# Altium schematic symbol library 温湿度.SchLib: 22 symbols
Pins are listed as number, name and electrical type; pins without a type are passive.

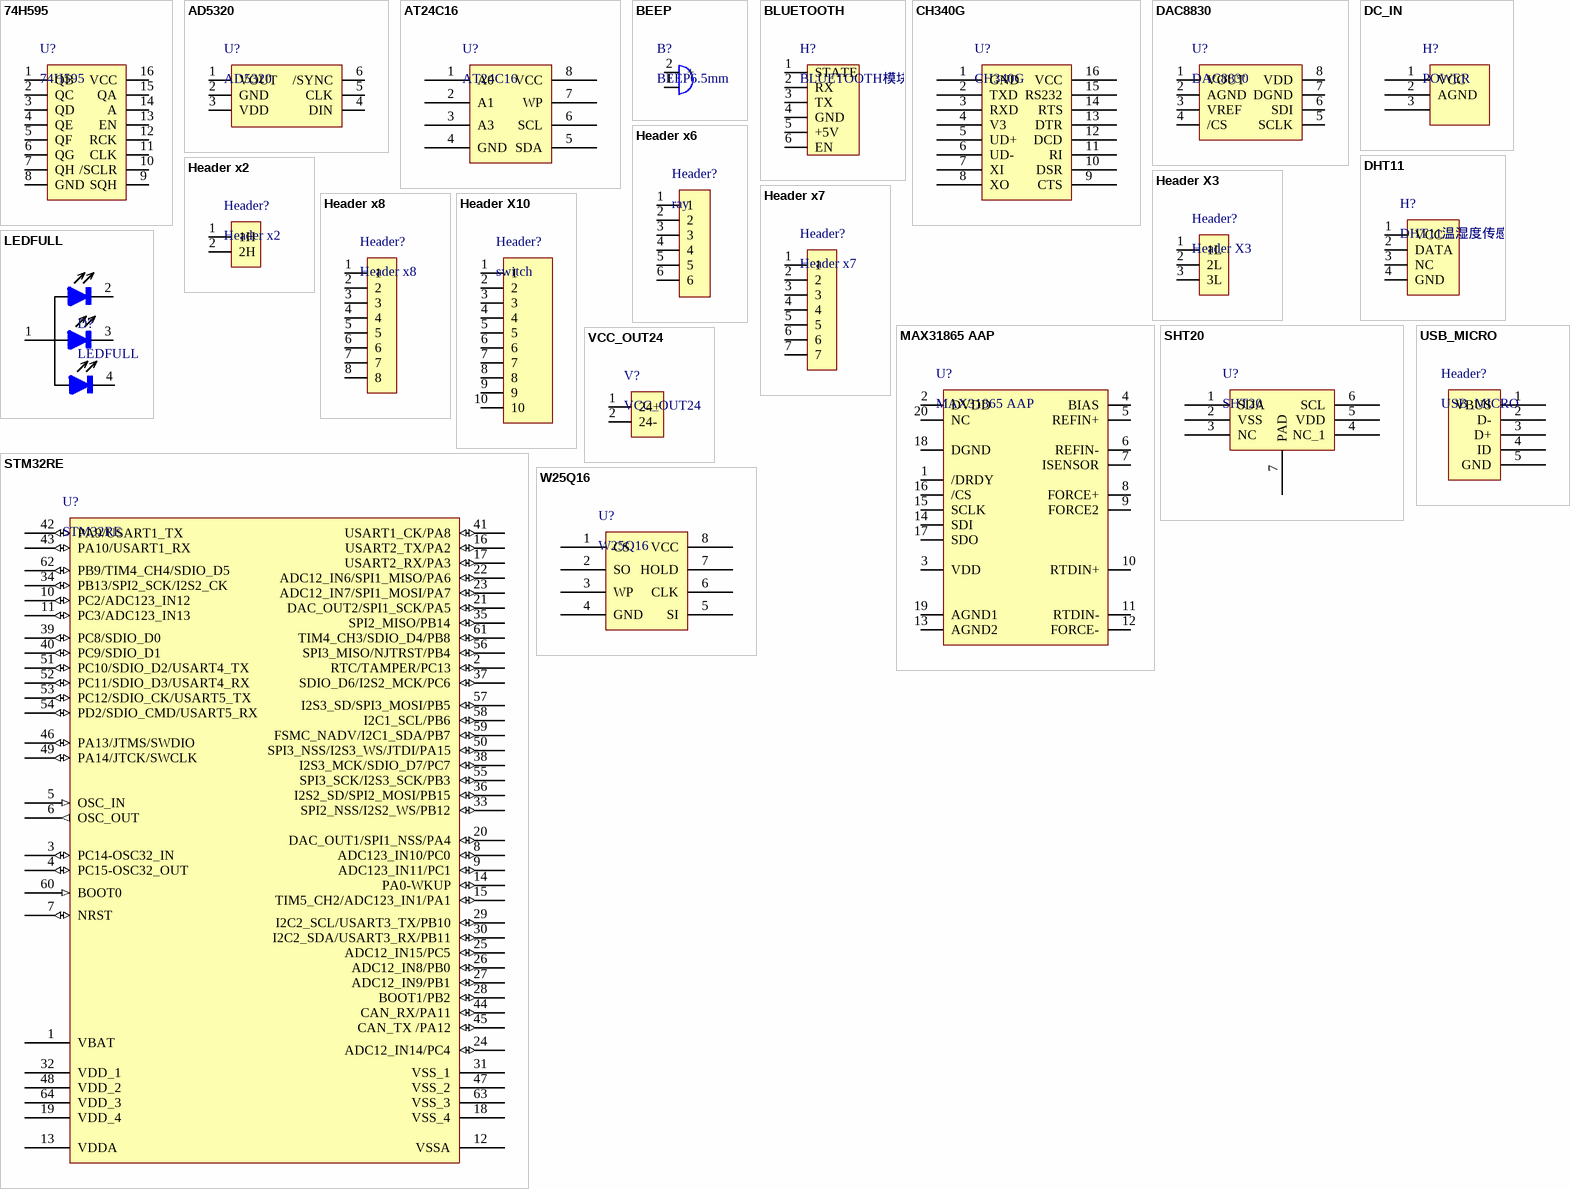
[diagram p0: symbols 74H595 to W25Q16]

## 74H595
designator U?
pins: 1 QB, 2 QC, 3 QD, 4 QE, 5 QF, 6 QG, 7 QH, 8 GND, 9 SQH, 10 /SCLR, 11 CLK, 12 RCK, 13 EN, 14 A, 15 QA, 16 VCC

## AD5320
designator U?
AD5320 数模转换
pins: 1 VOUT, 2 GND, 3 VDD, 4 DIN, 5 CLK, 6 /SYNC

## AT24C16
designator U?
EEPROM
pins: 1 A0, 2 A1, 3 A3, 4 GND, 5 SDA, 6 SCL, 7 WP, 8 VCC

## BEEP
designator B?, comment BEEP6.5mm
footprint BEEP 6.5x12x6 (6.5*12*6mm(脚距,直径,高度))
pins: 1, 2 +

## BLUETOOTH
designator H?, comment BLUETOOTH模块
footprint BLUETOOTH (蓝牙模块)
pins: 1 STATE, 2 RX, 3 TX, 4 GND, 5 +5V, 6 EN

## CH340G
designator U?
pins: 1 GND, 2 TXD, 3 RXD, 4 V3, 5 UD+, 6 UD-, 7 XI, 8 XO, 9 CTS, 10 DSR, 11 RI, 12 DCD, 13 DTR, 14 RTS, 15 RS232, 16 VCC

## DAC8830
designator U?
pins: 1 VOUT, 2 AGND, 3 VREF, 4 /CS, 5 SCLK, 6 SDI, 7 DGND, 8 VDD

## DC_IN
designator H?, comment POWER
footprint DC-005 (5.5*2.1mm，DC30V,2.5A)
pins: 1 VCC, 2 AGND, 3

## DHT11
designator H?, comment DHT11温湿度传感器
footprint DHT11 (温湿度传感器)
pins: 1 VCC, 2 DATA, 3 NC, 4 GND

## Header x2
designator Header?
pins: 1 1H, 2 2H

## Header X3
designator Header?
pins: 1 1L, 2 2L, 3 3L

## Header x6
designator Header?, comment ray
2个红外线口
pins: 1, 2, 3, 4, 5, 6

## Header x7
designator Header?
pins: 1, 2, 3, 4, 5, 6, 7

## Header x8
designator Header?
红外2个 4VCC 4GND 2信号线
pins: 1, 2, 3, 4, 5, 6, 7, 8

## Header X10
designator Header?, comment switch
pins: 1, 2, 3, 4, 5, 6, 7, 8, 9, 10

## LEDFULL
designator D?
全彩LED
pins: 1, 2, 3, 4

## MAX31865 AAP
designator U?
pins: 1 /DRDY, 2 DVDD, 3 VDD, 4 BIAS, 5 REFIN+, 6 REFIN-, 7 ISENSOR, 8 FORCE+, 9 FORCE2, 10 RTDIN+, 11 RTDIN-, 12 FORCE-, 13 AGND2, 14 SDI, 15 SCLK, 16 /CS, 17 SDO, 18 DGND, 19 AGND1, 20 NC

## SHT20
designator U?
pins: 1 SDA, 2 VSS, 3 NC, 4 NC_1, 5 VDD, 6 SCL, 7 PAD

## STM32RE
designator U?
footprint LQFP64 10X10_M (Footprint not found)
pins: 1 VBAT (power), 2 RTC/TAMPER/PC13 (io), 3 PC14-OSC32_IN (io), 4 PC15-OSC32_OUT (io), 5 OSC_IN (in), 6 OSC_OUT (out), 7 NRST (io), 8 ADC123_IN10/PC0 (io), 9 ADC123_IN11/PC1 (io), 10 PC2/ADC123_IN12 (io), 11 PC3/ADC123_IN13 (io), 12 VSSA (power), 13 VDDA (power), 14 PA0-WKUP (io), 15 TIM5_CH2/ADC123_IN1/PA1 (io), 16 USART2_TX/PA2 (io), 17 USART2_RX/PA3 (io), 18 VSS_4 (power), 19 VDD_4 (power), 20 DAC_OUT1/SPI1_NSS/PA4 (io), 21 DAC_OUT2/SPI1_SCK/PA5 (io), 22 ADC12_IN6/SPI1_MISO/PA6 (io), 23 ADC12_IN7/SPI1_MOSI/PA7 (io), 24 ADC12_IN14/PC4 (io), 25 ADC12_IN15/PC5 (io), 26 ADC12_IN8/PB0 (io), 27 ADC12_IN9/PB1 (io), 28 BOOT1/PB2 (io), 29 I2C2_SCL/USART3_TX/PB10 (io), 30 I2C2_SDA/USART3_RX/PB11 (io), 31 VSS_1, 32 VDD_1 (power), 33 SPI2_NSS/I2S2_WS/PB12 (io), 34 PB13/SPI2_SCK/I2S2_CK (io), 35 SPI2_MISO/PB14 (io), 36 I2S2_SD/SPI2_MOSI/PB15 (io), 37 SDIO_D6/I2S2_MCK/PC6 (io), 38 I2S3_MCK/SDIO_D7/PC7 (io), 39 PC8/SDIO_D0 (io), 40 PC9/SDIO_D1 (io), 41 USART1_CK/PA8 (io), 42 PA9/USART1_TX (io), 43 PA10/USART1_RX (io), 44 CAN_RX/PA11 (io), 45 CAN_TX /PA12 (io), 46 PA13/JTMS/SWDIO (io), 47 VSS_2, 48 VDD_2 (power), 49 PA14/JTCK/SWCLK (io), 50 SPI3_NSS/I2S3_WS/JTDI/PA15 (io), 51 PC10/SDIO_D2/USART4_TX (io), 52 PC11/SDIO_D3/USART4_RX (io), 53 PC12/SDIO_CK/USART5_TX (io), 54 PD2/SDIO_CMD/USART5_RX (io), 55 SPI3_SCK/I2S3_SCK/PB3 (io), 56 SPI3_MISO/NJTRST/PB4 (io), 57 I2S3_SD/SPI3_MOSI/PB5 (io), 58 I2C1_SCL/PB6 (io), 59 FSMC_NADV/I2C1_SDA/PB7 (io), 60 BOOT0 (in), 61 TIM4_CH3/SDIO_D4/PB8 (io), 62 PB9/TIM4_CH4/SDIO_D5 (io), 63 VSS_3 (power), 64 VDD_3 (power)

## USB_MICRO
designator Header?
pins: 1 VBUS, 2 D-, 3 D+, 4 ID, 5 GND

## VCC_OUT24
designator V?
pins: 1 24+, 2 24-

## W25Q16
designator U?
串行FLASH
pins: 1 CS, 2 SO, 3 WP, 4 GND, 5 SI, 6 CLK, 7 HOLD, 8 VCC